# Altium footprint library AUAV-X1_R1.PcbLib: 39 footprints (part 1 of 3)
Each footprint in its own frame and in the unit in brackets; x right, y up, seen from the top. Pads: shape width x height; smd on the part's side, far side on the other; paste and mask are expansions set on the pad; w line width, h text height; cw(c..) or ccw(c..) is an arc to the next point about the centre after c.
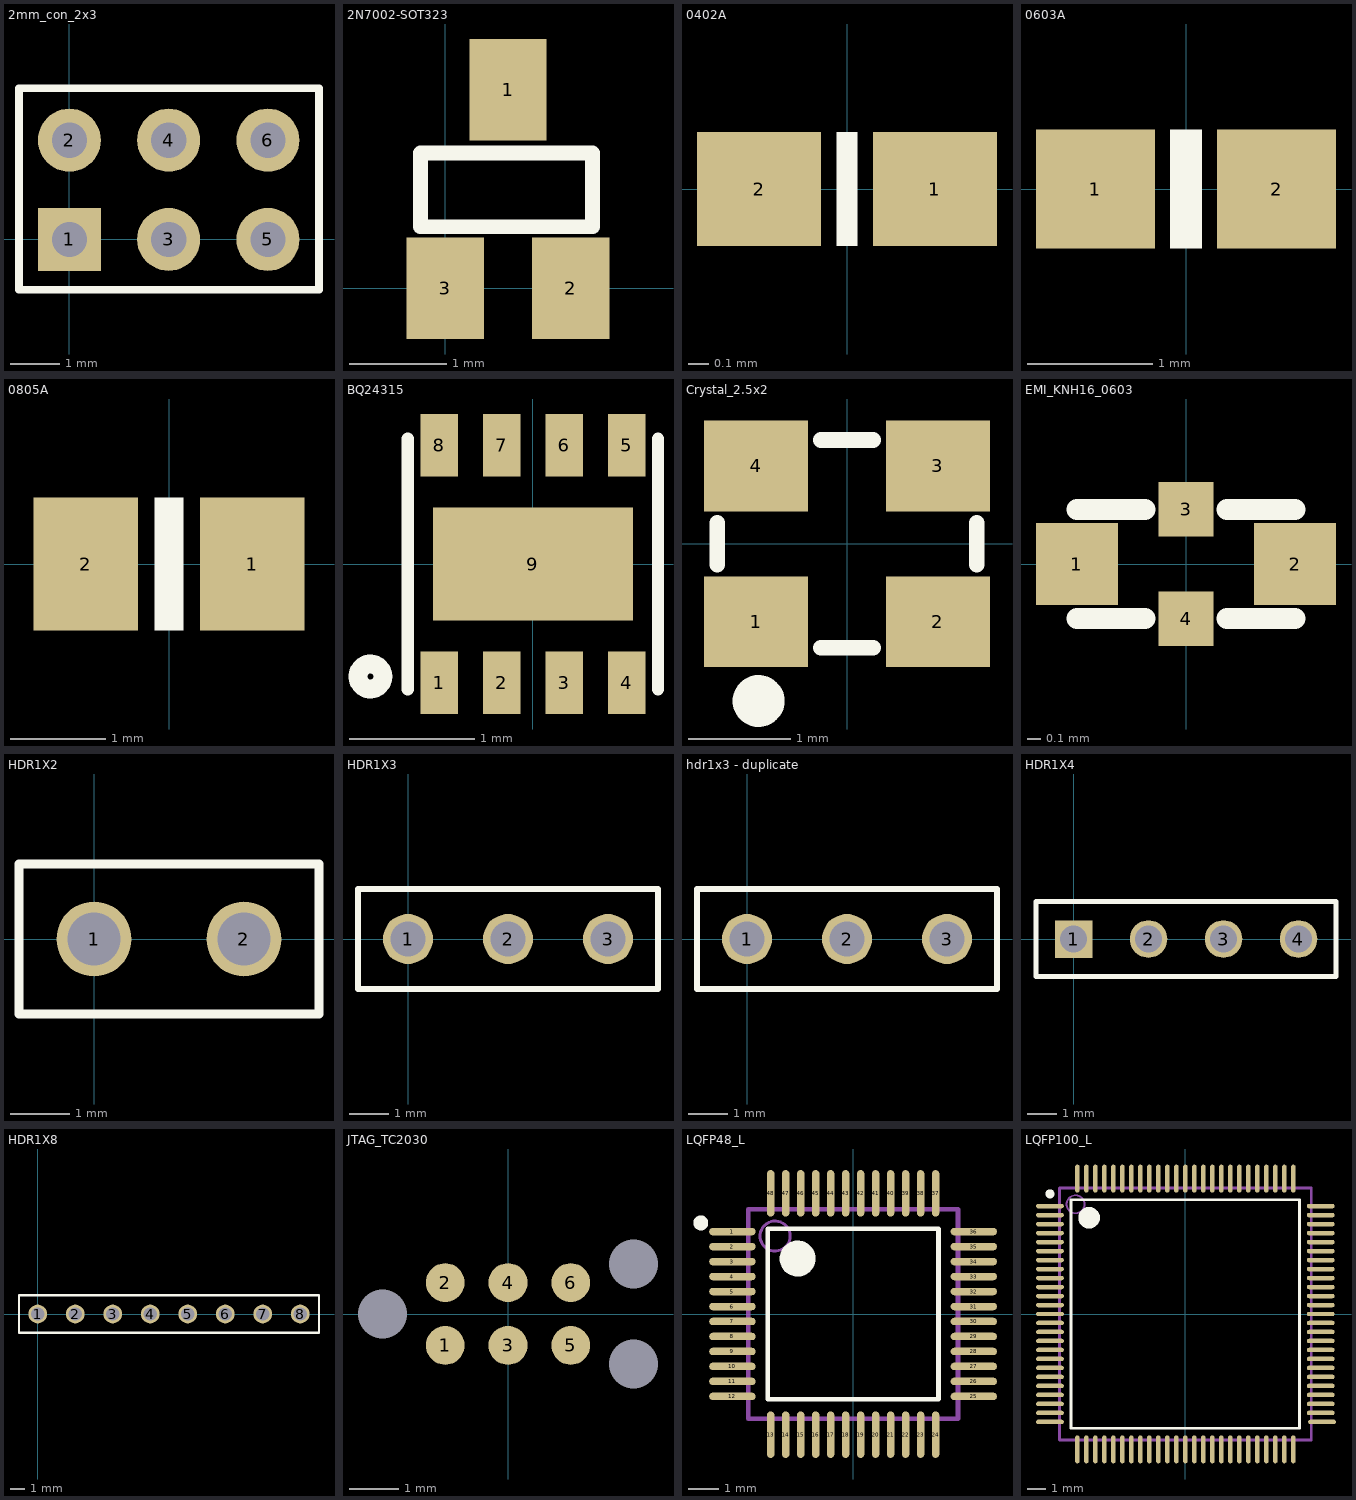
[diagram p0: the footprints below, top view; thin cyan lines are the x and y axes]

## 2mm_con_2x3 [mm]
pads (6):
  rect 1.27x1.27 hole 0.711: 1(0,0)
  round 1.27 hole 0.711: 2(0,2) 3(2,0) 4(2,2) 5(4,0) 6(4,2)
Top Overlay:
  lines w0.154: -1.016,-1.016 -1.016,3.048 5.029,3.048 5.029,-1.016 -1.016,-1.016

## 2N7002-SOT323 [mm]
height 1.76
pads (3):
  rect 0.8x1.05 smd: 1(0.65,2.05) 2(1.3,0) 3(0,0)
Top Overlay:
  lines w0.154: -0.254,0.635 -0.254,1.397 1.524,1.397 1.524,0.635 -0.254,0.635

## 0402A [mm]
height 1.7
pads (2):
  rect 0.6x0.55 smd: 1(0.425,0) 2(-0.425,0)
Top Overlay:
  rectangle: -0.05,-0.275 0.05,0.275

## 0603A [mm]
pads (2):
  rect 0.95x0.95 smd: 1(-0.725,0) 2(0.725,0)
Top Overlay:
  rectangle: -0.127,-0.475 0.127,0.475

## 0805A [mm]
pads (2):
  rect 1.1x1.4 smd: 1(0.875,0) 2(-0.875,0)
Top Overlay:
  rectangle: -0.15,-0.7 0.15,0.7

## BQ24315 [mm]
pads (9):
  rect 0.3x0.5 smd: 1(-0.75,-0.95) 2(-0.25,-0.95) 3(0.25,-0.95) 4(0.75,-0.95) 5(0.75,0.95) 6(0.25,0.95) 7(-0.25,0.95) 8(-0.75,0.95)
  rect 1.6x0.9 smd: 9(0,0)
Top Overlay:
  circle w0.15: c-1.3,-0.9 r0.1
  lines w0.1: -1,-1 -1,1 ; 1,-1 1,1

## Crystal_2.5x2 [mil]
pads (4):
  rect 40x35 smd: 1(-35,-30) 2(35,-30) 3(35,30) 4(-35,30)
Top Overlay:
  circle w10: c-34.02,-60.51 r5
  lines w6.06: -50,-8 -50,8 ; -10,-40 10,-40 ; -10,40 10,40 ; 50,-8 50,8

## EMI_KNH16_0603 [mm]
pads (4):
  rect 0.6x0.6 smd: 1(-0.8,0) 2(0.8,0)
  rect 0.4x0.4 smd: 3(0,0.4) 4(0,-0.4)
Top Overlay:
  lines w0.154: -0.8,-0.4 -0.3,-0.4 ; -0.8,0.4 -0.3,0.4 ; 0.3,-0.4 0.8,-0.4 ; 0.3,0.4 0.8,0.4

## HDR1X2 [mm] "Connector; Header; 2 Position"
height 1.76
pads (2):
  round 1.27 / inner round 1.27 / far side round 1.5 hole 0.9: 1(0,0) 2(2.54,0)
Top Overlay:
  lines w0.154: -1.27,-1.27 3.81,-1.27 3.81,1.27 -1.27,1.27 -1.27,-1.27

## HDR1X3 [mm] "Connector; Header; 3 Position"
height 1.76
pads (3):
  round 1.27 / inner round 1.27 / far side round 1.5 hole 0.9: 1(0,0) 2(2.54,0) 3(5.08,0)
Top Overlay:
  lines w0.154: -1.27,-1.27 6.35,-1.27 6.35,1.27 -1.27,1.27 -1.27,-1.27

## hdr1x3 - duplicate [mm]
pads (3):
  round 1.27 / inner round 1.27 / far side round 1.5 hole 0.9: 1(0,0) 2(2.54,0) 3(5.08,0)
Top Overlay:
  lines w0.154: -1.27,-1.27 6.35,-1.27 6.35,1.27 -1.27,1.27 -1.27,-1.27

## HDR1X4 [mm] "Connector; Header; 4 Position"
height 0.55
pads (4):
  rect 1.27x1.27 / inner rect 1.27x1.27 / far side rect 1.5x1.5 hole 0.9: 1(0,0)
  round 1.27 / inner round 1.27 / far side round 1.5 hole 0.9: 2(2.54,0) 3(5.08,0) 4(7.62,0)
Top Overlay:
  lines w0.154: -1.27,-1.27 8.89,-1.27 8.89,1.27 -1.27,1.27 -1.27,-1.27

## HDR1X8 [mm] "Connector; Header; 8 Position"
height 1.76
pads (8):
  round 1.27 / inner round 1.27 / far side round 1.397 hole 0.9: 1(0,0) 5(10.16,0)
  round 1.27 / inner round 1.27 / far side round 1.5 hole 0.9: 2(2.54,0) 3(5.08,0) 4(7.62,0) 6(12.7,0) 7(15.24,0) 8(17.78,0)
Top Overlay:
  lines w0.154: -1.27,-1.27 19.05,-1.27 19.05,1.27 -1.27,1.27 -1.27,-1.27

## JTAG_TC2030 [mil]
pads (9):
  round 31 smd: 1(-50,-25) 2(-50,25) 3(0,-25) 4(0,25) 5(50,-25) 6(50,25)
  round 0 hole 39: ""(-100,0) ""(100,-40) ""(100,40)

## LQFP48_L [mm] "Thin QFP, 48-Leads, Body 7x7mm, Pitch 0.5mm, IPC High Density"
height 1.6
pads (48):
  oval 1.55x0.25 smd: 1(-4.025,2.75) 2(-4.025,2.25) 3(-4.025,1.75) 4(-4.025,1.25) 5(-4.025,0.75) 6(-4.025,0.25) 7(-4.025,-0.25) 8(-4.025,-0.75) 9(-4.025,-1.25) 10(-4.025,-1.75) 11(-4.025,-2.25) 12(-4.025,-2.75) 25(4.025,-2.75) 26(4.025,-2.25) 27(4.025,-1.75) 28(4.025,-1.25) 29(4.025,-0.75) 30(4.025,-0.25) 31(4.025,0.25) 32(4.025,0.75) 33(4.025,1.25) 34(4.025,1.75) 35(4.025,2.25) 36(4.025,2.75)
  oval 0.25x1.55 smd: 13(-2.75,-4.025) 14(-2.25,-4.025) 15(-1.75,-4.025) 16(-1.25,-4.025) 17(-0.75,-4.025) 18(-0.25,-4.025) 19(0.25,-4.025) 20(0.75,-4.025) 21(1.25,-4.025) 22(1.75,-4.025) 23(2.25,-4.025) 24(2.75,-4.025) 37(2.75,4.025) 38(2.25,4.025) 39(1.75,4.025) 40(1.25,4.025) 41(0.75,4.025) 42(0.25,4.025) 43(-0.25,4.025) 44(-0.75,4.025) 45(-1.25,4.025) 46(-1.75,4.025) 47(-2.25,4.025) 48(-2.75,4.025)
Top Overlay:
  circle w0.6: c-1.85,1.85 r0.3
  circle w0.25: c-5.082,3.039 r0.125
  lines w0.154: -2.85,-2.85 2.85,-2.85 2.85,2.85 -2.85,2.85 -2.85,-2.85
Mechanical 13:
  circle w0.1: c-2.6,2.6 r0.5
  lines w0.154: -3.5,-3.5 3.5,-3.5 3.5,3.5 -3.5,3.5 -3.5,-3.5
3D body: height 1.6, standoff 0, extent -3.5,-3.5 3.5,3.5

## LQFP100_L [mm] "Thin QFP, 100-Leads, Body 14x14mm, Pitch 0.5mm, IPC High Density"
height 1.6
pads (100):
  oval 1.55x0.25 smd: 1(-7.525,6) 2(-7.525,5.5) 3(-7.525,5) 4(-7.525,4.5) 5(-7.525,4) 6(-7.525,3.5) 7(-7.525,3) 8(-7.525,2.5) 9(-7.525,2) 10(-7.525,1.5) 11(-7.525,1) 12(-7.525,0.5) 13(-7.525,0) 14(-7.525,-0.5) 15(-7.525,-1) 16(-7.525,-1.5) 17(-7.525,-2) 18(-7.525,-2.5) 19(-7.525,-3) 20(-7.525,-3.5) 21(-7.525,-4) 22(-7.525,-4.5) 23(-7.525,-5) 24(-7.525,-5.5) 25(-7.525,-6) 51(7.6,-6) 52(7.525,-5.5) 53(7.525,-5) 54(7.525,-4.5) 55(7.525,-4) 56(7.525,-3.5) 57(7.525,-3) 58(7.525,-2.5) 59(7.525,-2) 60(7.525,-1.5) 61(7.525,-1) 62(7.525,-0.5) 63(7.525,0) 64(7.525,0.5) 65(7.525,1) 66(7.525,1.5) 67(7.525,2) 68(7.525,2.5) 69(7.525,3) 70(7.525,3.5) 71(7.525,4) 72(7.525,4.5) 73(7.525,5) 74(7.525,5.5) 75(7.525,6)
  oval 0.25x1.55 smd: 26(-6,-7.525) 27(-5.5,-7.525) 28(-5,-7.525) 29(-4.5,-7.525) 30(-4,-7.525) 31(-3.5,-7.525) 32(-3,-7.525) 33(-2.5,-7.525) 34(-2,-7.525) 35(-1.5,-7.525) 36(-1,-7.525) 37(-0.5,-7.525) 38(0,-7.525) 39(0.5,-7.525) 40(1,-7.525) 41(1.5,-7.525) 42(2,-7.525) 43(2.5,-7.525) 44(3,-7.525) 45(3.5,-7.525) 46(4,-7.525) 47(4.5,-7.525) 48(5,-7.525) 49(5.5,-7.525) 50(6,-7.525) 76(6,7.525) 77(5.5,7.525) 78(5,7.525) 79(4.5,7.525) 80(4,7.525) 81(3.5,7.525) 82(3,7.525) 83(2.5,7.525) 84(2,7.525) 85(1.5,7.525) 86(1,7.525) 87(0.5,7.525) 88(0,7.525) 89(-0.5,7.525) 90(-1,7.525) 91(-1.5,7.525) 92(-2,7.525) 93(-2.5,7.525) 94(-3,7.525) 95(-3.5,7.525) 96(-4,7.525) 97(-4.5,7.525) 98(-5,7.525) 99(-5.5,7.525) 100(-6,7.525)
Top Overlay:
  circle w0.6: c-5.35,5.35 r0.3
  circle w0.25: c-7.525,6.675 r0.125
  lines w0.154: -6.35,-6.35 6.35,-6.35 6.35,6.35 -6.35,6.35 -6.35,-6.35
Mechanical 13:
  circle w0.1: c-6.1,6.1 r0.5
  lines w0.154: -7,-7 7,-7 7,7 -7,7 -7,-7
3D body: height 1.6, standoff 0, extent -7,-7 7,7